# Altium integrated library SparkFun-GPS.Library.IntLib: 23 symbols
Pins are listed as number, name and electrical type; pins without a type are passive.

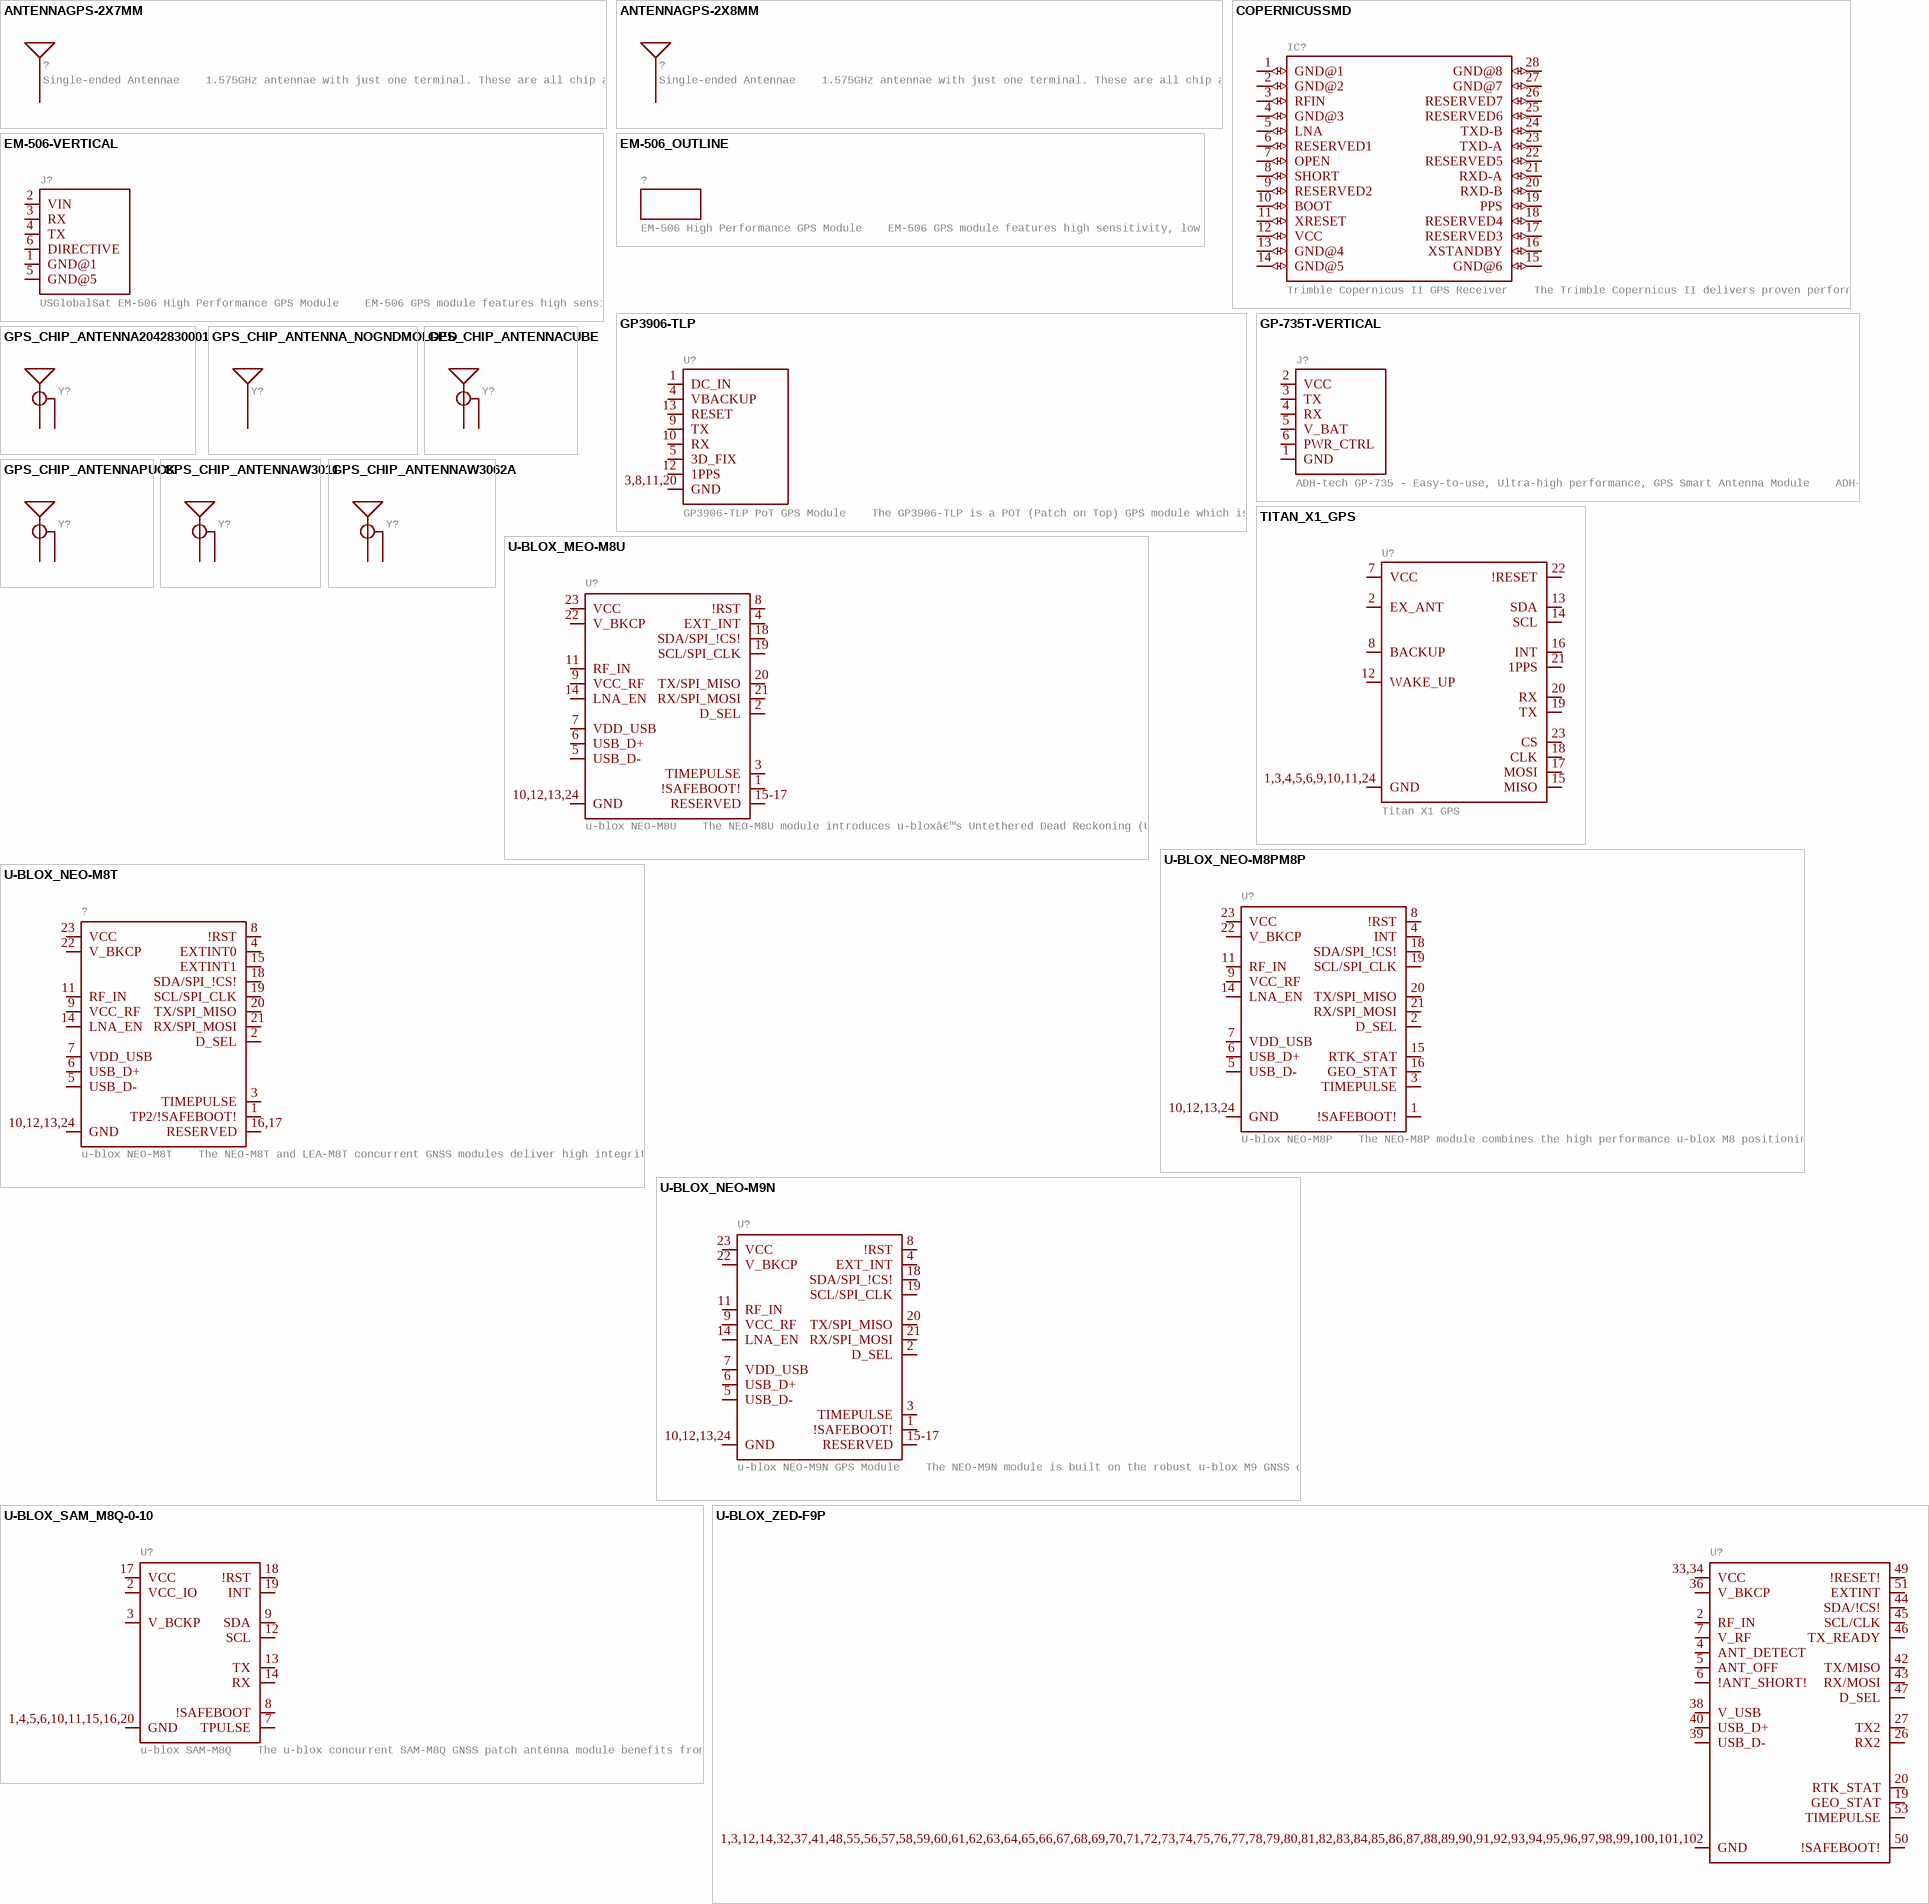
[diagram p0: symbols ANTENNAGPS-2X7MM to U-BLOX_ZED-F9P]

## ANTENNAGPS-2X7MM
designator ?, comment Single-ended Antennae    1.575GHz antennae with just one terminal. These are all chip antennae.   1575MHz (GPS) Antennae ANT-GPS-2X7MM - 2.0 x 7.0 mm chip antenna. (SparkFun Product)  ANT-GPS-2X8MM - 2.0 x 8.0 mm chip antenna. (SparkFun Product)
GateName_1: G$1; PROD_ID: ANT-09087; SF_ID: GPS-09131; SymbolName_1: ANTENNA; DeviceName: GPS-2X7MM; LibraryName: SparkFun-GPS; DeviceSetName: ANTENNA; Package: ANT-GPS-2X7MM
footprint ANT-GPS-2X7MM
pins: 1 SIGNAL (io)

## ANTENNAGPS-2X8MM
designator ?, comment Single-ended Antennae    1.575GHz antennae with just one terminal. These are all chip antennae.   1575MHz (GPS) Antennae ANT-GPS-2X7MM - 2.0 x 7.0 mm chip antenna. (SparkFun Product)  ANT-GPS-2X8MM - 2.0 x 8.0 mm chip antenna. (SparkFun Product)
GateName_1: G$1; PROD_ID: GPS-08510; SF_ID: GPS-08418; SymbolName_1: ANTENNA; DeviceName: GPS-2X8MM; LibraryName: SparkFun-GPS; DeviceSetName: ANTENNA; Package: ANT-GPS-2X8MM
footprint ANT-GPS-2X8MM
pins: SIG SIGNAL (io)

## COPERNICUSSMD
designator IC?, comment Trimble Copernicus II GPS Receiver    The Trimble Copernicus II delivers proven performance and Trimble quality for a new generation of position-enabled products. It features the TrimCoreâ„¢ navigation software for extremely fast startup times and high performance in foliage canopy and urban canyon environments.   SparkFun Products GPS Module - Copernicus II (12 Channel) (GPS-10922)  SparkFun GPS Module - Copernicus II DIP (12 Channel) (GPS-11858)
GateName_1: G$2; DeviceName: SMD; PROD_ID: GPS-10735; SymbolName_1: COPERNICUS; LibraryName: SparkFun-GPS; DeviceSetName: COPERNICUS; Package: COPERNICUS; SF_ID: GPS-10922
footprint COPERNICUS
pins: 1 GND@1 (io), 2 GND@2 (io), 3 RFIN (io), 4 GND@3 (io), 5 LNA (io), 6 RESERVED1 (io), 7 OPEN (io), 8 SHORT (io), 9 RESERVED2 (io), 10 BOOT (io), 11 XRESET (io), 12 VCC (io), 13 GND@4 (io), 14 GND@5 (io), 15 GND@6 (io), 16 XSTANDBY (io), 17 RESERVED3 (io), 18 RESERVED4 (io), 19 PPS (io), 20 RXD-B (io), 21 RXD-A (io), 22 RESERVED5 (io), 23 TXD-A (io), 24 TXD-B (io), 25 RESERVED6 (io), 26 RESERVED7 (io), 27 GND@7 (io), 28 GND@8 (io)

## EM-506-VERTICAL
designator J?, comment USGlobalSat EM-506 High Performance GPS Module    EM-506 GPS module features high sensitivity, low power and ultra small form factor. This GPS module is powered by SiRF Star IV, it can provide you with superior sensitivity and performance even in urban canyon and dense foliage environment. With SiRF CGEE (Client Generated Extended Ephemeris) technology, it predicts satellite positions for up to 3 days and delivers CGEE-start time of less than 15 seconds under most conditions, without any network assistance. Besides, MicroPower Mode allows GPS module to stay in a hot-start condition nearly continuously while consuming very little power.   SparkFun Products GPS Receiver - EM-506 (48 Channel) (GPS-12751)
GateName_1: G$1; DeviceName: -VERTICAL; PROD_ID: CONN-08249; SymbolName_1: EM-506; LibraryName: SparkFun-GPS; DeviceSetName: EM-506; Package: JST-6PIN-1MM
footprint JST-6PIN-1MM
pins: 1 GND@1 (io), 2 VIN (io), 3 RX (io), 4 TX (io), 5 GND@5 (io), 6 DIRECTIVE (io)

## EM-506_OUTLINE
designator ?, comment EM-506 High Performance GPS Module    EM-506 GPS module features high sensitivity, low power and ultra small form factor. This GPS module is powered by SiRF Star IV, it can provide you with superior sensitivity and performance even in urban canyon and dense foliage environment. With SiRF CGEE (Client Generated Extended Ephemeris) technology, it predicts satellite positions for up to 3 days and delivers CGEE-start time of less than 15 seconds under most conditions, without any network assistance. Besides, MicroPower Mode allows GPS module to stay in a hot-start condition nearly continuously while consuming very little power.   SparkFun Products GPS Receiver - EM-506 (48 Channel) (GPS-12751)
GateName_1: G$1; SymbolName_1: EM506_OUTLINE; DeviceSetName: EM-506_OUTLINE; PROD_ID: GPS-11958; LibraryName: SparkFun-GPS; Package: EM-506_OUTLINE; SF_ID: GPS-12751
footprint EM-506_OUTLINE

## GP3906-TLP
designator U?, comment GP3906-TLP PoT GPS Module    The GP3906-TLP is a POT (Patch on Top) GPS module which is special designed for ultra low power consumption purpose environment. It is a GPS receiver providing a solution that high position and speed accuracy performances as well as high sensitivity and tracking capabilities in urban conditions. The GPS chipsets inside the module are designed by MediaTek Inc., which is the world's leading digital media solution provider and largest fab-less IC company in Taiwan. The module can support up to 66 channels. The GPS solution enables small form factor devices. They deliver major advancements in GPS performances, accuracy, integration, computing power and flexibility. They are designed to simplify the embedded system integration process.   Features:  Based on MediaTek Single Chip Architecture (MT3339).  ARM7 based application processor  High sensitivity: -165dBm tracking  L1 frequency, C/A code  Channels: 66 acquisition, 22 simultaneous tracking  Low power consumption: 26mA @ acquisition, 20mA @ tracking  Cold/Warm/Hot start time: <35/<33/<1 seconds  Maximum update rate up to 10Hz  GPS data interface: TTL level serial port  Support NMEA 0183 standard V3.01 and backward compliance  Support SBAS â€“ WAAS, EGNOS, GAGAN and MSAS  Dimensionï¼š16mm x 16mm x 6.7mm  RoHS compliant  Advanced software features  AlwaysLocate TM advanced location awareness technology  EPO TM orbit prediction  Supports logger function (LOCUS)       SparkFun Products SparkFun GPS Logger Shield
GateName_1: G$1; PROD_ID: GPS-13174; SymbolName_1: GP3906-TLP; LibraryName: SparkFun-GPS; DeviceSetName: GP3906-TLP; Package: GP3906-TLP
footprint GP3906-TLP
pins: 1 DC_IN (io), 3,8,11,20 GND (io), 4 VBACKUP (io), 5 3D_FIX (io), 9 TX (io), 10 RX (io), 12 1PPS (io), 13 RESET (io)

## GP-735T-VERTICAL
designator J?, comment ADH-tech GP-735 - Easy-to-use, Ultra-high performance, GPS Smart Antenna Module    ADH-tech GP-735 is a slim, ultra-high performance, easy to use GPS smart antenna module designed with u-bloxâ€™s latest 7th generation single chip. This feature rich GPS module not only shortens the design efforts but also provides powerful functions. The compact design allows fast adoption and high yield production. The power control feature is very convenient to turn on/off power just via GPIO control pin. Itâ€™s  especially useful to turn off power as the GPS function is not needed in the host applications.   Datasheet   SparkFun Products GPS Receiver - GP-735 (56 Channel) (GPS-13670)
GateName_1: G$1; SymbolName_1: GP-735T; DeviceName: -VERTICAL; PROD_ID: CONN-08249; LibraryName: SparkFun-GPS; DeviceSetName: GP-735T; Package: JST-6PIN-1MM
footprint JST-6PIN-1MM
pins: 1 GND (io), 2 VCC (io), 3 TX (io), 4 RX (io), 5 V_BAT (io), 6 PWR_CTRL (io)

## GPS_CHIP_ANTENNA2042830001
designator Y?
GateName_1: G$1; SymbolName_1: ANTENNA-GROUNDED; DeviceName: 2042830001; DeviceSetName: GPS_CHIP_ANTENNA; PROD_ID: ANT-14306; LibraryName: SparkFun-GPS; Package: MOLEX_GNSS_CHIP
footprint MOLEX_GNSS_CHIP
pins: 1-3 GND (io), FEED SIGNAL (io)

## GPS_CHIP_ANTENNA_NOGNDMOLDED
designator Y?
GateName_1: G$1; SymbolName_1: ANTENNA; DeviceName: MOLDED; DeviceSetName: GPS_CHIP_ANTENNA_NOGND; PROD_ID: ANT-14303; LibraryName: SparkFun-GPS; Package: MLOEX_GNSS_MOLDED
footprint MLOEX_GNSS_MOLDED
pins: FEED SIGNAL (io)

## GPS_CHIP_ANTENNACUBE
designator Y?
GateName_1: G$1; SymbolName_1: ANTENNA-GROUNDED; DeviceName: CUBE; DeviceSetName: GPS_CHIP_ANTENNA; PROD_ID: ANT-14307; LibraryName: SparkFun-GPS; Package: MOLEX_GNSS_CUBE
footprint MOLEX_GNSS_CUBE
pins: FEED SIGNAL (io), GND (io)

## GPS_CHIP_ANTENNAPUCK
designator Y?
GateName_1: G$1; SymbolName_1: ANTENNA-GROUNDED; DeviceName: PUCK; DeviceSetName: GPS_CHIP_ANTENNA; PROD_ID: ANT-14308; LibraryName: SparkFun-GPS; Package: TE_PUCK
footprint TE_PUCK
pins: 1-3 GND (io), S SIGNAL (io)

## GPS_CHIP_ANTENNAW3011
designator Y?
GateName_1: G$1; SymbolName_1: ANTENNA-GROUNDED; DeviceName: W3011; DeviceSetName: GPS_CHIP_ANTENNA; PROD_ID: ANT-14304; LibraryName: SparkFun-GPS; Package: W3011
footprint W3011
pins: 1 SIGNAL (io), 2,3 GND (io)

## GPS_CHIP_ANTENNAW3062A
designator Y?
GateName_1: G$1; SymbolName_1: ANTENNA-GROUNDED; DeviceName: W3062A; DeviceSetName: GPS_CHIP_ANTENNA; PROD_ID: ANT-14305; LibraryName: SparkFun-GPS; Package: W3062A
footprint W3062A
pins: FEED SIGNAL (io), GND (io)

## TITAN_X1_GPS
designator U?, comment Titan X1 GPS
GateName_1: U1; SymbolName_1: TITAN_X1_GPS; PROD_ID: GPS-13693; LibraryName: SparkFun-GPS; DeviceSetName: TITAN_X1_GPS; Package: TITAN_X1_GPS
footprint TITAN_X1_GPS
pins: 1,3,4,5,6,9,10,11,24 GND (io), 2 EX_ANT (io), 7 VCC (io), 8 BACKUP (io), 12 WAKE_UP (io), 13 SDA (io), 14 SCL (io), 15 MISO (io), 16 INT (io), 17 MOSI (io), 18 CLK (io), 19 TX (io), 20 RX (io), 21 1PPS (io), 22 !RESET (io), 23 CS (io)

## U-BLOX_MEO-M8U
designator U?, comment u-blox NEO-M8U    The NEO-M8U module introduces u-bloxâ€™s Untethered Dead Reckoning (UDR) technology, which provides continuous navigation without requiring speed information from the vehicle. This innovative technology brings the benefits of dead reckoning to installations previously restricted to using GNSS alone, and significantly reduces the cost of installation for after-market dead reckoning applications.    The strength of UDR is particularly apparent under poor signal conditions, where it brings continuous positioning in urban environments, even to devices with antennas installed within the vehicle. Useful positioning performance is also available during complete signal loss, for example in parking garages and short tunnels. With UDR, positioning starts as soon as power is applied to the module, before the first GNSS fix is available.    The NEO-M8U may be installed in any position within the vehicle without configuration. In addition to its freedom from any electrical connection to the vehicle, the on-board accelerometer and gyroscope sensors result in a fully self-contained solution, perfect for rapid product development with reliable and consistent performance.
GateName_1: G$1; DeviceSetName: U-BLOX_MEO-M8U; PROD_ID: IC-14850; SymbolName_1: NEO-M8U; LibraryName: SparkFun-GPS; Package: NEO-M9N/M8T/M8U
footprint NEO-M9N/M8T/M8U
pins: 1 !SAFEBOOT! (io), 2 D_SEL (io), 3 TIMEPULSE (io), 4 EXT_INT (io), 5 USB_D- (io), 6 USB_D+ (io), 7 VDD_USB (io), 8 !RST (io), 9 VCC_RF (io), 10,12,13,24 GND (io), 11 RF_IN (io), 14 LNA_EN (io), 15-17 RESERVED, 18 SDA/SPI_!CS! (io), 19 SCL/SPI_CLK (io), 20 TX/SPI_MISO (io), 21 RX/SPI_MOSI (io), 22 V_BKCP (io), 23 VCC (io)

## U-BLOX_NEO-M8PM8P
designator U?, comment U-blox NEO-M8P    The NEO-M8P module combines the high performance u-blox M8 positioning engine with u-bloxâ€™s Real Time Kinematic (RTK) technology. The NEO-M8P provides cm-level GNSS performance designed to meet the needs of unmanned vehicles and other machine control applications requiring high precision guidance.
GateName_1: U1; DeviceName: M8P; DeviceSetName: U-BLOX_NEO-M8P; PROD_ID: IC-14069; SymbolName_1: NEO-M8P; LibraryName: SparkFun-GPS; Package: NEO-M8P
footprint NEO-M8P
pins: 1 !SAFEBOOT! (io), 2 D_SEL (io), 3 TIMEPULSE (io), 4 INT (io), 5 USB_D- (io), 6 USB_D+ (io), 7 VDD_USB (io), 8 !RST (io), 9 VCC_RF (io), 10,12,13,24 GND (io), 11 RF_IN (io), 14 LNA_EN (io), 15 RTK_STAT (io), 16 GEO_STAT (io), 18 SDA/SPI_!CS! (io), 19 SCL/SPI_CLK (io), 20 TX/SPI_MISO (io), 21 RX/SPI_MOSI (io), 22 V_BKCP (io), 23 VCC (io)

## U-BLOX_NEO-M8T
designator ?, comment u-blox NEO-M8T    The NEO-M8T and LEA-M8T concurrent GNSS modules deliver high integrity, precision timing in demanding applicationsworld-wide. Support for BeiDou, GLONASS and Galileo constellations enables compliance with national requirements. Enhanced sensitivity and concurrent constellation reception extend coverage and integrity to challenging signal environments. Survey-in and fixed-position navigation reduce timing jitter, even at low signal levels, and enable synchronization to be maintained with as few as one single satellite in view. Support for low duty cycle operation reduces power consumption for battery-powered applications.    u-blox timing products include timing integrity measures with Receiver Autonomous Integrity Monitoring (RAIM) and continuous phase uncertainty estimation. They feature high dynamic range radios with both analog and digital interference mitigation, supporting applications in wireless communications equipment.    The M8T timing modules are delivered in u-bloxâ€™s established LEA and NEO form-factors with standard pin-out, allowing ready migration from previous product generations. u-blox timing products can make use of u-blox AssistNow or industry-standard aiding data. This reduces the time-to-firstfix and delivers exceptional acquisition sensitivity, even on first installation before precise location, time or frequency are known.
GateName_1: G$1; DeviceSetName: U-BLOX_NEO-M8T; PROD_ID: IC-14839; SymbolName_1: NEO-M8T; LibraryName: SparkFun-GPS; Package: NEO-M9N/M8T/M8U
footprint NEO-M9N/M8T/M8U
pins: 1 TP2/!SAFEBOOT! (io), 2 D_SEL (io), 3 TIMEPULSE (io), 4 EXTINT0 (io), 5 USB_D- (io), 6 USB_D+ (io), 7 VDD_USB (io), 8 !RST (io), 9 VCC_RF (io), 10,12,13,24 GND (io), 11 RF_IN (io), 14 LNA_EN (io), 15 EXTINT1 (io), 16,17 RESERVED, 18 SDA/SPI_!CS! (io), 19 SCL/SPI_CLK (io), 20 TX/SPI_MISO (io), 21 RX/SPI_MOSI (io), 22 V_BKCP (io), 23 VCC (io)

## U-BLOX_NEO-M9N
designator U?, comment u-blox NEO-M9N GPS Module    The NEO-M9N module is built on the robust u-blox M9 GNSS chip, which provides exceptional sensitivity and acquisition times for all L1 GNSS systems. The u-blox M9 standard precision GNSS platform, which delivers meter-level accuracy, succeeds the well-known u-blox M8 product range. The receiver also provides higher navigation rate and improved security features compared to previous u-blox GNSS generations. The NEO-M9N module is available in the NEO form factor LLC package
GateName_1: G$1; DeviceSetName: U-BLOX_NEO-M9N; PROD_ID: IC-14651; SymbolName_1: NEO-M9N; LibraryName: SparkFun-GPS; Package: NEO-M9N/M8T/M8U
footprint NEO-M9N/M8T/M8U
pins: 1 !SAFEBOOT! (io), 2 D_SEL (io), 3 TIMEPULSE (io), 4 EXT_INT (io), 5 USB_D- (io), 6 USB_D+ (io), 7 VDD_USB (io), 8 !RST (io), 9 VCC_RF (io), 10,12,13,24 GND (io), 11 RF_IN (io), 14 LNA_EN (io), 15-17 RESERVED, 18 SDA/SPI_!CS! (io), 19 SCL/SPI_CLK (io), 20 TX/SPI_MISO (io), 21 RX/SPI_MOSI (io), 22 V_BKCP (io), 23 VCC (io)

## U-BLOX_SAM_M8Q-0-10
designator U?, comment u-blox SAM-M8Q    The u-blox concurrent SAM-M8Q GNSS patch antenna module benefits from the exceptional performance of the u-blox M8 multi-GNSS engine. The SAM-M8Q module offers high sensitivity and minimal acquisition times in an ultra compact form factor.   The SAM-M8Q module utilizes concurrent reception of up to three GNSS systems (GPS/Galileo and GLONASS), recognizes multiple constellations simultaneously and provides outstanding positioning accuracy in scenarios where urban canyon or weak signals are involved. For even better and faster positioning improvement, the SAM-M8Q supports augmentation of QZSS, GAGAN and IMES together with WAAS, EGNOS, MSAS. The SAM-M8Q also supports message integrity protection, geofencing, and spoofing detection with configurable interface settings to easily fit to customer applications.
GateName_1: U1; DeviceSetName: U-BLOX_SAM_M8Q-0-10; PROD_ID: IC-14070; SymbolName_1: SAM-M8Q; LibraryName: SparkFun-GPS; Package: SAM-M8Q
footprint SAM-M8Q
pins: 1,4,5,6,10,11,15,16,20 GND (io), 2 VCC_IO (io), 3 V_BCKP (io), 7 TPULSE (io), 8 !SAFEBOOT (io), 9 SDA (io), 12 SCL (io), 13 TX (io), 14 RX (io), 17 VCC (io), 18 !RST (io), 19 INT (io)

## U-BLOX_ZED-F9P
designator U?
GateName_1: U1; SymbolName_1: ZED-F9P; DeviceSetName: U-BLOX_ZED-F9P; PROD_ID: IC-14209; LibraryName: SparkFun-GPS; Package: ZED-F9P
footprint ZED-F9P
pins: 1,3,12,14,32,37,41,48,55,56,57,58,59,60,61,62,63,64,65,66,67,68,69,70,71,72,73,74,75,76,77,78,79,80,81,82,83,84,85,86,87,88,89,90,91,92,93,94,95,96,97,98,99,100,101,102 GND (io), 2 RF_IN (io), 4 ANT_DETECT (io), 5 ANT_OFF (io), 6 !ANT_SHORT! (io), 7 V_RF (io), 19 GEO_STAT (io), 20 RTK_STAT (io), 26 RX2 (io), 27 TX2 (io), 33,34 VCC (io), 36 V_BKCP (io), 38 V_USB (io), 39 USB_D- (io), 40 USB_D+ (io), 42 TX/MISO (io), 43 RX/MOSI (io), 44 SDA/!CS! (io), 45 SCL/CLK (io), 46 TX_READY (io), 47 D_SEL (io), 49 !RESET! (io), 50 !SAFEBOOT! (io), 51 EXTINT (io), 53 TIMEPULSE (io)

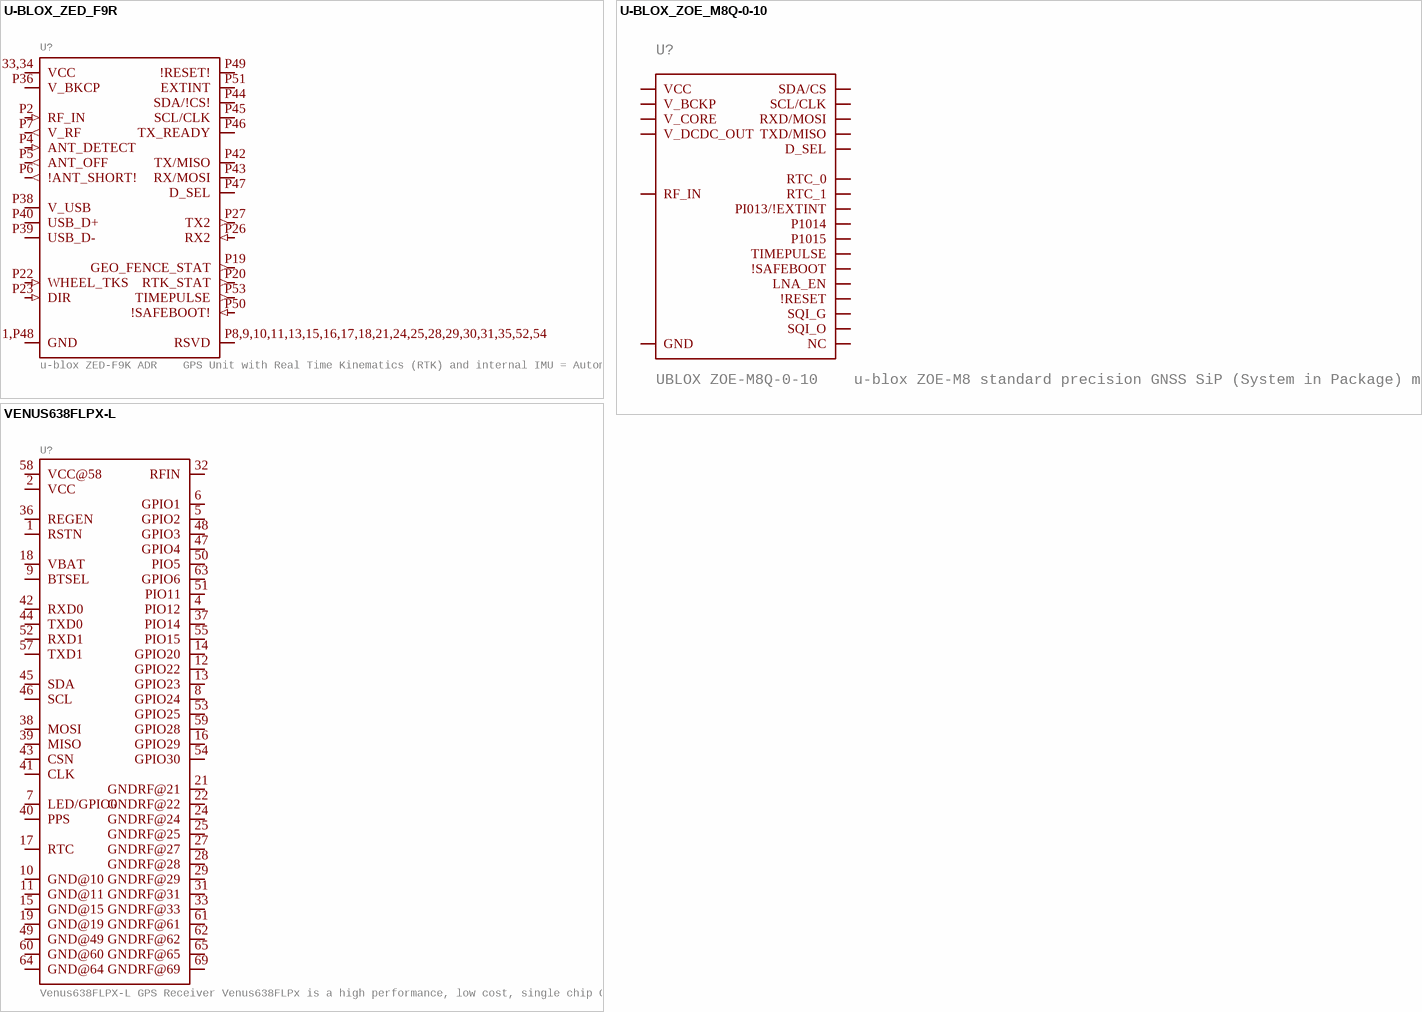
[diagram p1: symbols U-BLOX_ZED_F9R to VENUS638FLPX-L]

## U-BLOX_ZED_F9R
designator U?, comment u-blox ZED-F9K ADR    GPS Unit with Real Time Kinematics (RTK) and internal IMU = Automotive Dead Reckoning
GateName_1: G$1; SymbolName_1: ZED-F9R; DeviceSetName: U-BLOX_ZED_F9R; PROD_ID: IC-14716; LibraryName: SparkFun-GPS; Package: UBLOX_ZED_F9R
footprint UBLOX_ZED_F9R
pins: G1,G2,G3,G4,G5,G6,G7,G8,G9,G10,G11,G12,G13,G14,G15,G16,G17,G18,G19,G20,G21,G22,G23,G24,G25,G26,G27,G28,G29,G30,G31,G32,G33,G34,G35,G36,G37,G38,G39,G40,G41,G42,G43,G44,G45,G46,G47,G48,P1,P3,P12,P14,P32,P37,P41,P48 GND (power), P2 RF_IN (in), P4 ANT_DETECT (in), P5 ANT_OFF (out), P6 !ANT_SHORT! (out), P7 V_RF (out), P8,9,10,11,13,15,16,17,18,21,24,25,28,29,30,31,35,52,54 RSVD, P19 GEO_FENCE_STAT (out), P20 RTK_STAT (out), P22 WHEEL_TKS (in), P23 DIR (in), P26 RX2 (in), P27 TX2 (out), P33,34 VCC (power), P36 V_BKCP (power), P38 V_USB (power), P39 USB_D- (io), P40 USB_D+ (io), P42 TX/MISO (io), P43 RX/MOSI (io), P44 SDA/!CS! (io), P45 SCL/CLK (io), P46 TX_READY (io), P47 D_SEL (io), P49 !RESET! (io), P50 !SAFEBOOT! (in), P51 EXTINT (io), P53 TIMEPULSE (out)

## U-BLOX_ZOE_M8Q-0-10
designator U?, comment UBLOX ZOE-M8Q-0-10    u-blox ZOE-M8 standard precision GNSS SiP (System in Package) modules feature the high performance u-blox M8 GNSS engine. ZOE-M8â€™s ultra-miniature form factor integrates a complete GNSS receiver including SAW filter, LNA and TCXO.   Handles  all GNSS systems  and can simulatenously use up to three of them, with accuracy ranging from 2.5m to 4m. GPS  GLONASS  BeiDou  Galileo    This can be corrected with the SBAS or QZSS  augmentation systems.
GateName_1: G$1; SymbolName_1: U-BLOX_ZOE-M8-0-10; DeviceSetName: U-BLOX_ZOE_M8Q-0-10; PROD_ID: IC-14251; LibraryName: SparkFun-GPS; Package: UBLOX_ZOE_M8-0-10
footprint UBLOX_ZOE_M8-0-10
pins: 1,3,5,7,8,9,10,11,12,17,23,37,38,39,40,41,44,49 GND (power), 2 SDA/CS (io), 4 RF_IN (io), 6,13,14,15,28,42,51 NC, 16 V_BCKP (power), 18 RTC_0 (io), 19 RTC_1 (io), 20 !RESET (io), 21 TXD/MISO (io), 22 RXD/MOSI (io), 24,25 VCC (power), 26 V_DCDC_OUT (power), 27 V_CORE (power), 29,31,46,47 SQI_G (io), 30,45 SQI_O, 32 SCL/CLK (io), 33 TIMEPULSE (io), 34 !SAFEBOOT (io), 35 LNA_EN (io), 36 P1015 (io), 43 PI013/!EXTINT (io), 48 D_SEL (io), 50 P1014 (io)

## VENUS638FLPX-L
designator U?, comment Venus638FLPX-L GPS Receiver Venus638FLPx is a high performance, low cost, single chip GPS receiver targeting mobile consumer and cellular handset applications. It offers very low power consumption, high sensitivity, and best in class signal acquisition and time-to-first-fix performance.   Venus638FLPx contains all the necessary components of a complete GPS receiver, includes 1.2dB cascaded system NF RF front-end, GPS baseband signal processor, 0.5ppm TCXO, 32.768kHz RTC crystal, RTC LDO regulator, and passive components. It requires very low external component count and takes up only 100mm2 PCB footprint.   Dedicated massive-correlator signal parameter search engine within the baseband enables rapid search of all the available satellites and acquisition of very weak signal. An advanced track engine allows weak signal tracking and positioning in harsh environments such as urban canyons and under deep foliage. The self-contained architecture keeps GPS processing off the host and allows integration into applications with very little resource. SparkFun Products  GPS Module - Venus638FLPx-L 20Hz (14 Channel) (GPS-10919)
GateName_1: G$1; PROD_ID: IC-10734; SymbolName_1: VENUS638FLPX-L; LibraryName: SparkFun-GPS; DeviceSetName: VENUS638FLPX-L; Package: VENUS638FLPX
footprint VENUS638FLPX
pins: 1 RSTN (io), 2 VCC (io), 4 PIO12 (io), 5 GPIO2 (io), 6 GPIO1 (io), 7 LED/GPIO0 (io), 8 GPIO24 (io), 9 BTSEL (io), 10 GND@10 (io), 11 GND@11 (io), 12 GPIO22 (io), 13 GPIO23 (io), 14 GPIO20 (io), 15 GND@15 (io), 16 GPIO29 (io), 17 RTC (io), 18 VBAT (io), 19 GND@19 (io), 21 GNDRF@21 (io), 22 GNDRF@22 (io), 24 GNDRF@24 (io), 25 GNDRF@25 (io), 27 GNDRF@27 (io), 28 GNDRF@28 (io), 29 GNDRF@29 (io), 31 GNDRF@31 (io), 32 RFIN (io), 33 GNDRF@33 (io), 36 REGEN (io), 37 PIO14 (io), 38 MOSI (io), 39 MISO (io), 40 PPS (io), 41 CLK (io), 42 RXD0 (io), 43 CSN (io), 44 TXD0 (io), 45 SDA (io), 46 SCL (io), 47 GPIO4 (io), 48 GPIO3 (io), 49 GND@49 (io), 50 PIO5 (io), 51 PIO11 (io), 52 RXD1 (io), 53 GPIO25 (io), 54 GPIO30 (io), 55 PIO15 (io), 57 TXD1 (io), 58 VCC@58 (io), 59 GPIO28 (io), 60 GND@60 (io), 61 GNDRF@61 (io), 62 GNDRF@62 (io), 63 GPIO6 (io), 64 GND@64 (io), 65 GNDRF@65 (io), 69 GNDRF@69 (io)